# Altium schematic symbol library LM324DR.SchLib: 1 symbol
Pins are listed as number, name and electrical type; pins without a type are passive.

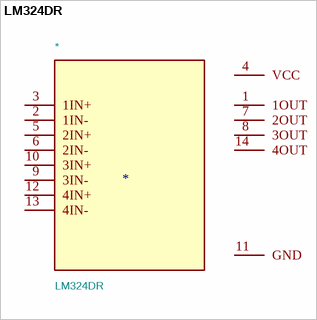
[diagram p0: symbol LM324DR]

## LM324DR
designator *  value LM324DR
\n                        \n                            Quad 30-V 1.2-MHz operational amplifier\n                        \n; MF: Texas Instruments; Footprint: LM324DR:SOIC127P600X175-14N; Description_: \n                        \n                            Quad 30-V 1.2-MHz operational amplifier\n                        \n; Package: SOIC-14 Texas Instruments; Price: None; SnapEDA_Link: https://www.snapeda.com/parts/LM324DR/Texas+Instruments/view-part/?ref=snap; MP: LM324DR; Availability: In Stock; Check_prices: https://www.snapeda.com/parts/LM324DR/Texas+Instruments/view-part/?ref=eda
footprint SOIC127P600X175-14N
pins: 1 1OUT, 2 1IN-, 3 1IN+, 4 VCC, 5 2IN+, 6 2IN-, 7 2OUT, 8 3OUT, 9 3IN-, 10 3IN+, 11 GND, 12 4IN+, 13 4IN-, 14 4OUT